# EAGLE library part XBEE (library 0_soofa_library)
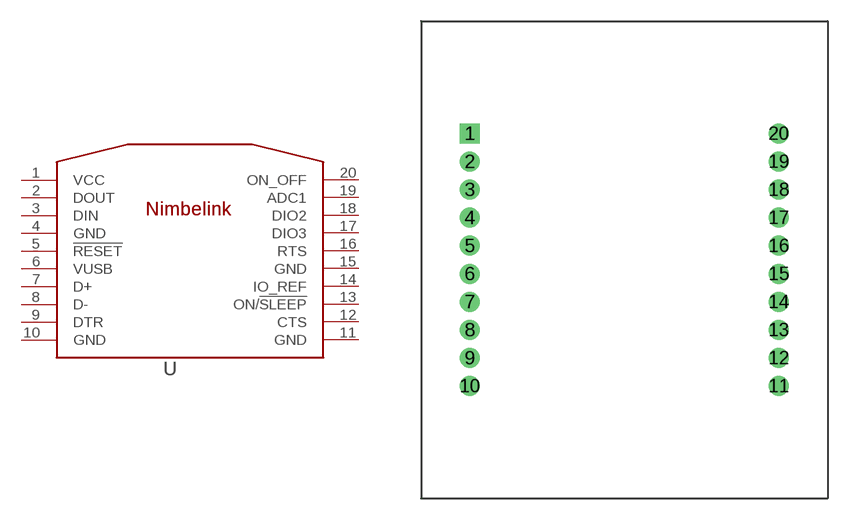
[diagram p4: symbol with the pads of XBEE; footprint XBEE]

Designator prefix -

## XBEE  [XBEE]
1  VCC  sup
2  DOUT  out
3  DIN  in
4  GND  pwr
5  !RESET  in
6  VUSB  out
7  D+  out
8  D-  nc
9  DTR  in
10  GND  sup
11  GND
12  CTS
13  ON/!SLEEP  out
14  IO_REF  in
15  GND
16  RTS
17  DIO3
18  DIO2
19  ADC1
20  ON_OFF

## Footprint XBEE (pad centres in mm)
drill 0.7 pad 1.422 square: 1 -11,9
drill 0.7 pad 1.422: 2 -11,7; 3 -11,5; 4 -11,3; 5 -11,1; 6 -11,-1; 7 -11,-3; 8 -11,-5; 9 -11,-7; 10 -11,-9; 11 11,-9; 12 11,-7; 13 11,-5; 14 11,-3; 15 11,-1; 16 11,1; 17 11,3; 18 11,5; 19 11,7; 20 11,9